# Altium footprint library SOT96-1.PcbLib: 1 footprints
Each footprint in its own frame and in the unit in brackets; x right, y up, seen from the top. Pads: shape width x height; smd on the part's side, far side on the other; paste and mask are expansions set on the pad; w line width, h text height; cw(c..) or ccw(c..) is an arc to the next point about the centre after c.
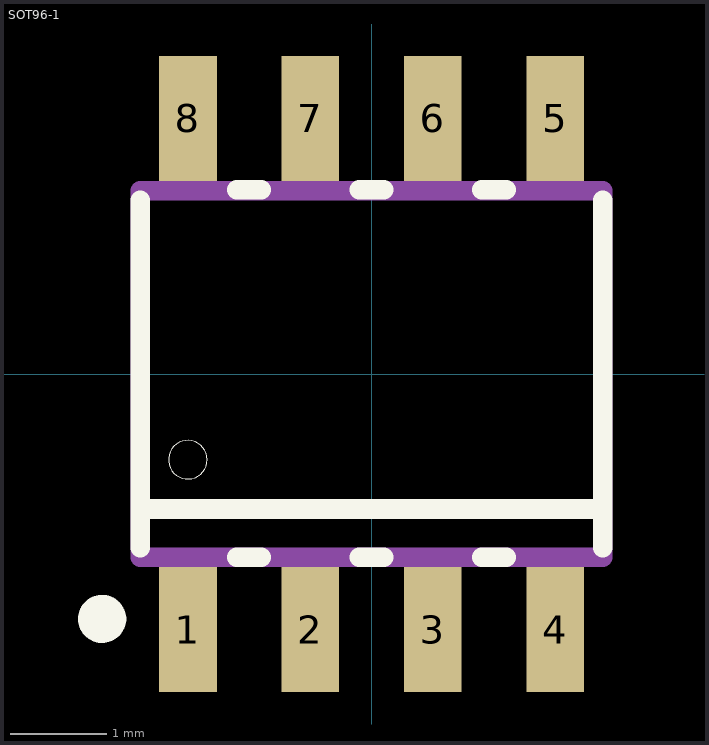
[diagram p0: the footprint, top view; thin cyan lines are the x and y axes]

## SOT96-1 [mm]
pads (8):
  rect 0.6x1.3 smd: 1(-1.905,-2.65) 2(-0.635,-2.65) 3(0.635,-2.65) 4(1.905,-2.65) 5(1.905,2.65) 6(0.635,2.65) 7(-0.635,2.65) 8(-1.905,2.65)
Top Overlay:
  circle w0: c-1.905,-0.889 r0.2
  circle w0.25: c-2.794,-2.54 r0.125
  lines w0.203: -2.4,-1.8 -2.4,-1.4 ; -2.4,1.8 -2.4,-1.4 ; -1.397,-1.9 -1.143,-1.9 ; -1.397,1.91 -1.143,1.91 ; -0.127,-1.9 0.127,-1.9 ; -0.127,1.91 0.127,1.91 ; 1.143,-1.9 1.397,-1.9 ; 1.143,1.91 1.397,1.91 ; 2.4,-1.8 2.4,-1.4 ; 2.4,1.8 2.4,-1.4 ; -2.4,-1.4 2.4,-1.4
Mechanical 1:
  region: -2.152,3.1 -1.66,3.1 -1.66,2.001 -2.152,2.001
  region: -0.881,3.1 -0.39,3.1 -0.39,2.002 -0.881,2.002
  region: 0.39,3.1 0.88,3.1 0.88,2 0.39,2
  region: 1.661,3.1 2.15,3.1 2.15,2.002 1.661,2.002
  region: 1.662,-2 2.15,-2 2.15,-3.105 1.662,-3.105
  region: 0.39,-2 0.88,-2 0.88,-3.101 0.39,-3.101
  region: -0.88,-2 -0.39,-2 -0.39,-3.1 -0.88,-3.1
  region: -2.151,-2 -1.66,-2 -1.66,-3.102 -2.151,-3.102
  lines w0.203: -2.4,-1.9 -2.4,-1.4 -2.4,1.9 2.4,1.9 2.4,-1.4 2.4,-1.9 -2.4,-1.9
3D body "CircuitWorks-SO-8.SLDPRT": height 1.45, standoff 0, extent -2.451,-2.857 2.451,2.921